# EAGLE library part NCV898031D1R2G (library NCV898031D1R2G)
Switching Voltage Regulators 2 MHZ SMPS Source: Datasheet <https://www.onsemi.com/pub/Collateral/NCV898031-D.PDF?hkey=EF798316E3902B6ED9A73243A3159BB0>
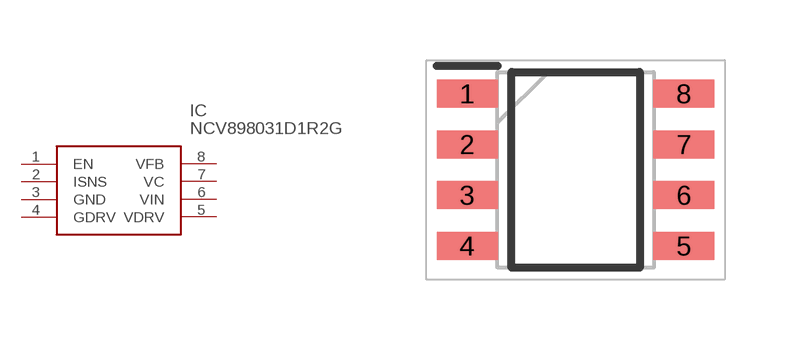
[diagram p0: symbol with the pads of SOIC127P600X175-8N; footprint SOIC127P600X175-8N]

Designator prefix IC

## NCV898031D1R2G (Description: Switching Voltage Regulators 2 MHZ SMPS; Height: 1.75mm; Manufacturer_Name: onsemi; Manufacturer_Part_Number: NCV898031D1R2G)  [SOIC127P600X175-8N]
1  EN
2  ISNS
3  GND
4  GDRV
5  VDRV
6  VIN
7  VC
8  VFB

## Footprint SOIC127P600X175-8N (pad centres in mm)
8-LEAD, SOIC, JDEC-MS-012, 0.150" NARROW BODY_2022
smd 1.525 x 0.7: 1 -2.712,1.905; 2 -2.712,0.635; 3 -2.712,-0.635; 4 -2.712,-1.905; 5 2.712,-1.905; 6 2.712,-0.635; 7 2.712,0.635; 8 2.712,1.905